# EAGLE library part DIN6 (library 326298_rev_a)
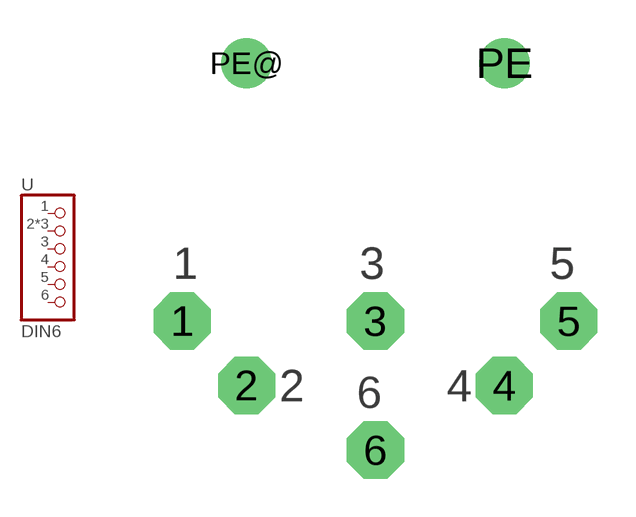
[diagram p0: symbol with the pads of DIN6; footprint DIN6]

Designator prefix -

## DIN6  [DIN6]
1  1  pas
2  2  pas
3  3  pas
4  4  pas
5  5  pas
6  6  pas
PE  2  pas
PE@  2  pas

## Footprint DIN6 (pad centres in mm)
Female CONNECTOR 6 pins with shield, horizontal (DIN 45322)
drill 1.5 octagon: 1 -7.62,0; 2 -5.08,-2.54; 3 0,0; 4 5.08,-2.54; 5 7.62,0; 6 0,-5.08
drill 1.321: PE 5.08,10.16; PE@ -5.08,10.16